# Altium footprint library Connector.PcbLib: 240 footprints (part 6 of 15)
Each footprint in its own frame and in the unit in brackets; x right, y up, seen from the top. Pads: shape width x height; smd on the part's side, far side on the other; paste and mask are expansions set on the pad; w line width, h text height; cw(c..) or ccw(c..) is an arc to the next point about the centre after c.
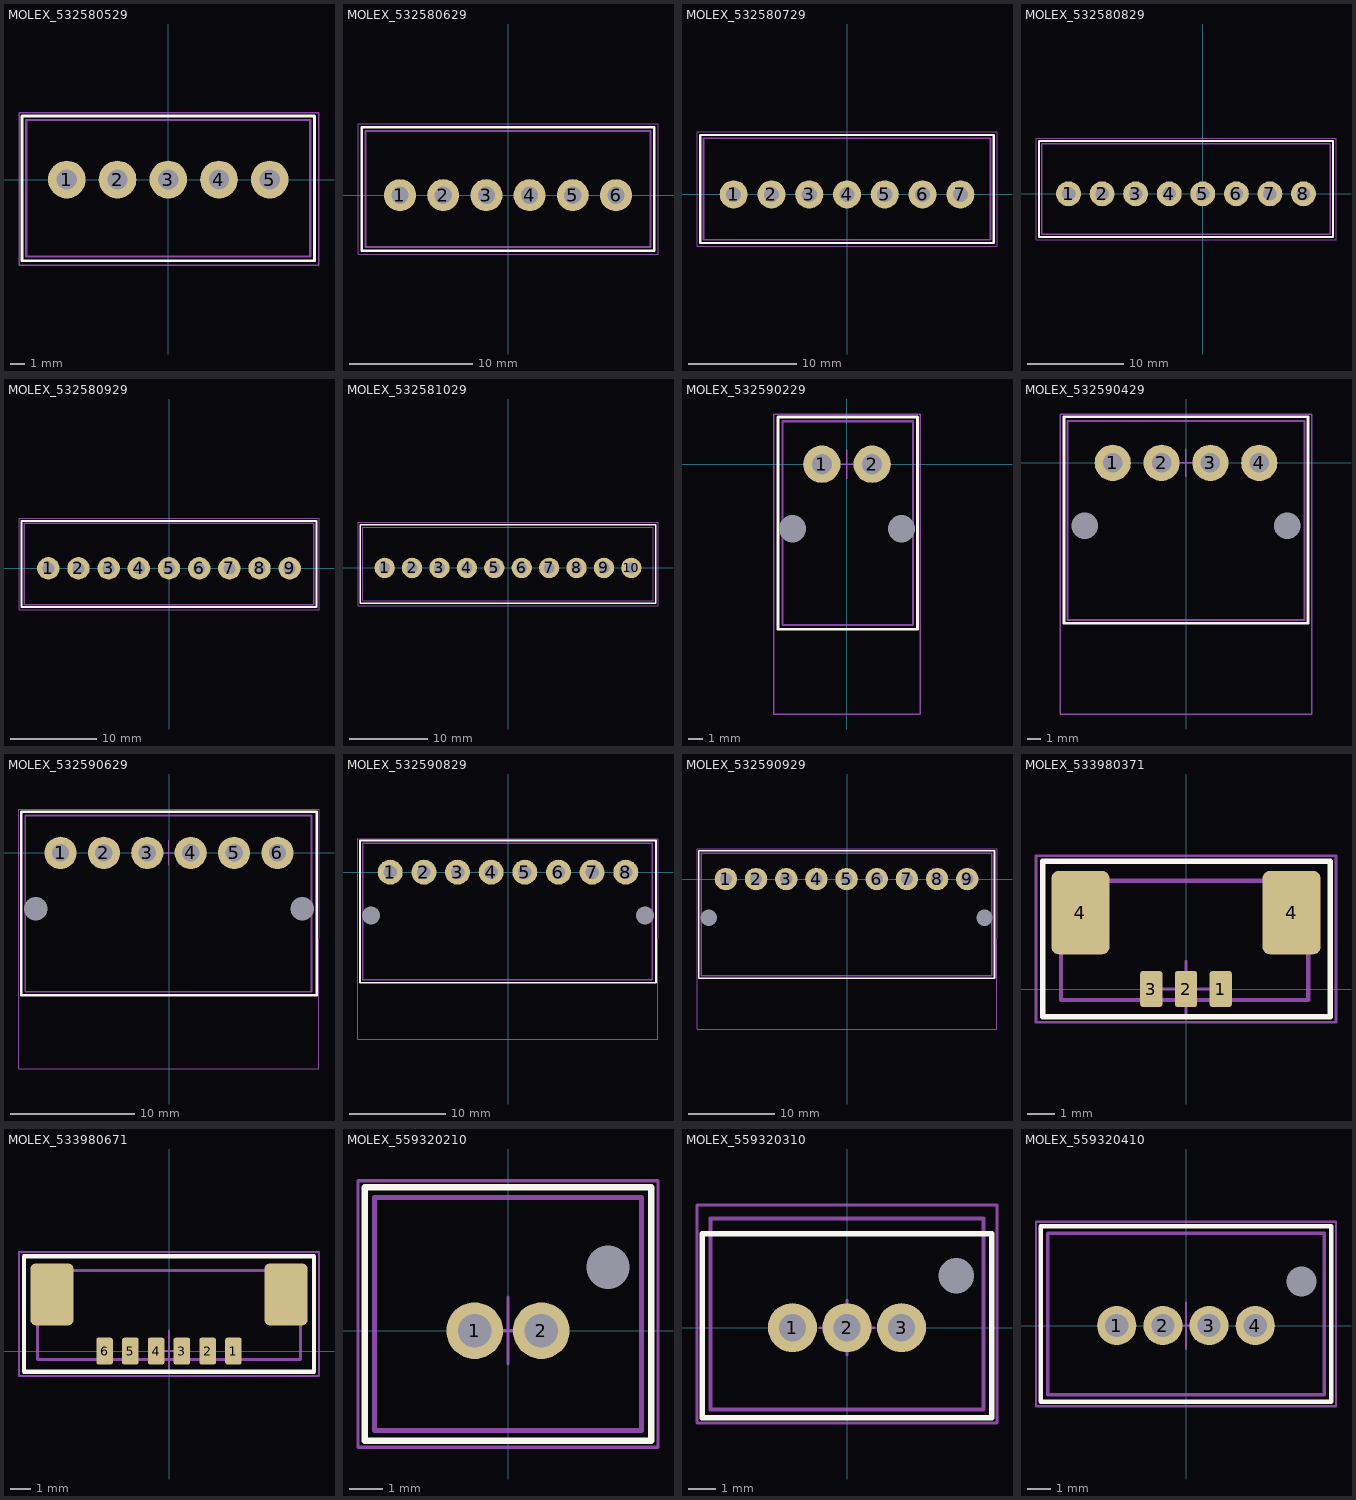
[diagram p5: the footprints below, top view; thin cyan lines are the x and y axes]

## MOLEX_532580529 [mm]
pads (5):
  round 2.6 hole 1.4: 1(-7,0) 2(-3.5,0) 3(0,0) 4(3.5,0) 5(7,0)
Top Overlay:
  lines w0.2: -10.1,-5.6 -10.1,4.4 10.1,4.4 10.1,-5.6 -10.1,-5.6
Mechanical 11:
  lines w0.15: -9.8,-5.3 -9.8,4.1 9.8,4.1 9.8,-5.3 -9.8,-5.3
Mechanical 15:
  lines w0.1: -0.95,0 1.05,0 ; 0.05,-1 0.05,1 ; -10.3,-5.9 10.4,-5.9 10.4,4.6 -10.3,4.6 -10.3,-5.9
3D body "Сборка 2.STEP": height 16.71, standoff -3.36, extent -9.8,-5.3 9.8,4.1

## MOLEX_532580629 [mm]
pads (6):
  round 2.6 hole 1.4: 1(-8.75,0) 2(-5.25,0) 3(-1.75,0) 4(1.75,0) 5(5.25,0) 6(8.75,0)
Top Overlay:
  lines w0.2: -11.85,-4.5 11.85,-4.5 11.85,5.5 -11.85,5.5 -11.85,-4.5
Mechanical 11:
  lines w0.15: 11.55,5.2 -11.55,5.2 -11.55,-4.2 11.55,-4.2 11.55,5.2
Mechanical 15:
  lines w0.1: 4.25,0 6.25,0 ; 5.25,-1 5.25,1 ; 12.15,-4.8 -12.15,-4.8 -12.15,5.8 12.15,5.8 12.15,-4.8
3D body "Connector 510670600 & 532580629.STEP": height 16.55, standoff -3.45, extent -11.55,-4.2 11.55,5.2

## MOLEX_532580729 [mm]
pads (7):
  round 2.6 hole 1.4: 1(-10.5,0) 2(-7,0) 3(-3.5,0) 4(0,0) 5(3.5,0) 6(7,0) 7(10.5,0)
Top Overlay:
  lines w0.2: -13.6,-4.5 13.6,-4.5 13.6,5.5 -13.6,5.5 -13.6,-4.5
Mechanical 11:
  lines w0.15: -13.3,-4.2 13.3,-4.2 13.3,5.2 -13.3,5.2 -13.3,-4.2
Mechanical 15:
  lines w0.1: 2.5,0 4.5,0 ; 3.5,-1 3.5,1 ; -13.9,-4.8 13.9,-4.8 13.9,5.8 -13.9,5.8 -13.9,-4.8
3D body "Singal connector (510670700 & 532580729).SLDASM.STEP": height 16.93, standoff -3.07, extent -13.305,-4.275 13.295,5.175

## MOLEX_532580829 [mm]
pads (8):
  round 2.6 hole 1.4: 1(-14,0) 2(-10.5,0) 3(-7,0) 4(-3.5,0) 5(0,0) 6(3.5,0) 7(7,0) 8(10.5,0)
Top Overlay:
  lines w0.2: -17.1,-4.5 13.6,-4.5 13.6,5.5 -17.1,5.5 -17.1,-4.5
Mechanical 11:
  lines w0.15: -16.8,-4.2 13.3,-4.2 13.3,5.2 -16.8,5.2 -16.8,-4.2
Mechanical 15:
  lines w0.1: -1,0 1,0 ; 0,-1 0,1 ; -17.4,-4.8 13.9,-4.8 13.9,5.8 -17.4,5.8 -17.4,-4.8
3D body "Connector 510670800 & 532580829.STEP": height 16.65, standoff -3.35, extent -16.85,-4.2 13.25,5.25

## MOLEX_532580929 [mm]
pads (9):
  round 2.6 hole 1.4: 1(-14,0) 2(-10.5,0) 3(-7,0) 4(-3.5,0) 5(0,0) 6(3.5,0) 7(7,0) 8(10.5,0) 9(14,0)
Top Overlay:
  lines w0.2: -17.1,-4.5 -17.1,5.5 17.1,5.5 17.1,-4.5 -17.1,-4.5
Mechanical 11:
  lines w0.15: -16.8,-4.2 -16.8,5.2 16.8,5.2 16.8,-4.2 -16.8,-4.2
Mechanical 15:
  lines w0.1: -1,0 1,0 ; 0,-1 0,1 ; -17.4,-4.8 -17.4,5.8 17.4,5.8 17.4,-4.8 -17.4,-4.8
3D body "Signal connector 510670900 & 5325580929.STEP": height 16.65, standoff -3.35, extent -16.8,-4.2 16.8,5.25

## MOLEX_532581029 [mm]
pads (10):
  round 2.6 hole 1.4: 1(-15.8,0) 2(-12.3,0) 3(-8.8,0) 4(-5.3,0) 5(-1.8,0) 6(1.7,0) 7(5.2,0) 8(8.7,0) 9(12.2,0) 10(15.7,0)
Top Overlay:
  lines w0.2: -18.9,-4.5 -18.9,5.5 18.8,5.5 18.8,-4.5 -18.9,-4.5
Mechanical 11:
  lines w0.15: -18.6,-4.2 -18.6,5.2 18.5,5.2 18.5,-4.2 -18.6,-4.2
Mechanical 15:
  lines w0.1: -2.8,0 -0.8,0 ; -1.8,-1 -1.8,1 ; -19.2,-4.8 -19.2,5.8 19.1,5.8 19.1,-4.8 -19.2,-4.8
3D body "Signal connector 510671000 & 532581029.SLDASM.STEP": height 16.65, standoff -3.35, extent -18.65,-4.2 18.45,5.25

## MOLEX_532590229 [mm]
pads (4):
  round 2.6 hole 1.4: 1(-1.75,0) 2(1.75,0)
  round 0 hole 1.9: ""(-3.8,-4.5) ""(3.8,-4.5)
Top Overlay:
  lines w0.2: -4.8,-11.5 -4.8,3.3 4.9,3.3 4.9,-11.5 -4.8,-11.5
Mechanical 11:
  lines w0.15: -4.5,-11.2 -4.5,3 4.6,3 4.6,-11.2 -4.5,-11.2
Mechanical 15:
  lines w0.1: -1,0 1,0 ; 0,-1 0,1 ; -5.1,-17.4 -5.1,3.5 5.1,3.5 5.1,-17.4 -5.1,-17.4
3D body "Connector (4pin) 510670200 & 532590229.STEP": height 9.95, standoff -3.45, extent -4.525,-17.25 4.575,2.95

## MOLEX_532590429 [mm]
pads (6):
  round 2.6 hole 1.4: 1(-5.25,0) 2(-1.75,0) 3(1.75,0) 4(5.25,0)
  round 0 hole 1.9: ""(-7.25,-4.5) ""(7.25,-4.5)
Top Overlay:
  lines w0.2: -8.75,-11.5 8.75,-11.5 8.75,3.3 -8.75,3.3 -8.75,-11.5
Mechanical 11:
  lines w0.15: -8.5,-11.25 8.5,-11.25 8.5,3 -8.5,3 -8.5,-11.25
Mechanical 15:
  lines w0.1: -1,0 1,0 ; 0,-1 0,1 ; -9,-18 9,-18 9,3.5 -9,3.5 -9,-18
3D body "Разъем Сборка.STEP": height 9.9, standoff -3.5, extent -8.05,-17.25 8.05,2.95

## MOLEX_532590629 [mm]
pads (8):
  round 2.6 hole 1.4: 1(-8.75,0) 2(-5.25,0) 3(-1.75,0) 4(1.75,0) 5(5.25,0) 6(8.75,0)
  round 0 hole 1.9: ""(-10.75,-4.5) ""(10.75,-4.5)
Top Overlay:
  lines w0.2: -11.9,-11.5 -11.9,3.3 11.9,3.3 11.9,-11.5 -11.9,-11.5
Mechanical 11:
  lines w0.15: -11.6,-11.2 -11.6,3 11.5,3 11.5,-11.2 -11.6,-11.2
Mechanical 15:
  lines w0.1: -1,0 1,0 ; 0,-1 0,1 ; -12.1,-17.4 -12.1,3.5 12.1,3.5 12.1,-17.4 -12.1,-17.4
3D body "Connector (6pin) 510670600 & 532590629.STEP": height 9.8, standoff -3.45, extent -11.6,-17.225 11.5,2.975

## MOLEX_532590829 [mm]
pads (10):
  round 2.6 hole 1.4: 1(-12.25,0) 2(-8.75,0) 3(-5.25,0) 4(-1.75,0) 5(1.75,0) 6(5.25,0) 7(8.75,0) 8(12.25,0)
  round 0 hole 1.9: ""(-14.25,-4.5) ""(14.25,-4.5)
Top Overlay:
  lines w0.2: -15.4,-11.5 15.4,-11.5 15.4,3.3 -15.4,3.3 -15.4,-11.5
Mechanical 11:
  lines w0.15: -15.1,-11.2 15,-11.2 15,3 -15.1,3 -15.1,-11.2
Mechanical 15:
  lines w0.1: 0.8,0 2.8,0 ; 1.8,-1 1.8,1 ; -15.6,-17.4 15.6,-17.4 15.6,3.5 -15.6,3.5 -15.6,-17.4
3D body "Connector (8pin) 510670800 & 532590829.STEP": height 9.6, standoff -3.65, extent -15.075,-17.2 15.025,3

## MOLEX_532590929 [mm]
pads (11):
  round 2.6 hole 1.4: 1(-14.05,0) 2(-10.55,0) 3(-7.05,0) 4(-3.55,0) 5(-0.05,0) 6(3.45,0) 7(6.95,0) 8(10.45,0) 9(13.95,0)
  round 0 hole 1.9: ""(-16.05,-4.5) ""(15.95,-4.5)
Top Overlay:
  lines w0.2: -17.2,-11.5 17.1,-11.5 17.1,3.3 -17.2,3.3 -17.2,-11.5
Mechanical 11:
  lines w0.15: -16.9,-11.2 16.8,-11.2 16.8,3 -16.9,3 -16.9,-11.2
Mechanical 15:
  lines w0.1: -1,0 1,0 ; 0,-1 0,1 ; -17.4,-17.4 17.4,-17.4 17.4,3.5 -17.4,3.5 -17.4,-17.4
3D body "Connector (9pin) 532590929 & 510670900.STEP": height 9.8, standoff -3.45, extent -16.825,-17.25 16.775,2.95

## MOLEX_533980371 [mm]
pads (5):
  rrect25% 0.8x1.3 smd: 1(1.25,0) 2(0,0) 3(-1.25,0)
  rrect25% 2.1x3 smd: 4(-3.8,2.75) 4(3.8,2.75)
Top Overlay:
  lines w0.2: -5.15,-1 -5.15,4.6 5.2,4.6 5.2,-1 -5.15,-1
Mechanical 7:
  lines w0.15: -4.5,-0.4 -4.5,3.9 4.4,3.9 4.4,-0.4 -4.5,-0.4
Mechanical 9:
  text ".Designator" at -6.5,10.2 h3
Mechanical 10:
  text ".Comment" at -4.6,8.4 h2
Mechanical 15:
  lines w0.1: -1,0 1,0 ; 0,-1 0,1 ; -5.4,-1.2 -5.4,4.8 5.4,4.8 5.4,-1.2 -5.4,-1.2
3D body "533980371.stp": height 4.7, standoff -0.04, extent -4.45,-0.35 4.45,3.85

## MOLEX_533980671 [mm]
pads (8):
  rrect25% 0.8x1.3 smd: 1(3.125,0) 2(1.875,0) 3(0.625,0) 4(-0.625,0) 5(-1.875,0) 6(-3.125,0)
  rrect25% 2.1x3 smd: ""(-5.675,2.75) ""(5.675,2.75)
Top Overlay:
  lines w0.2: -7.025,-1 -7.025,4.6 7.025,4.6 7.025,-1 -7.025,-1
Mechanical 7:
  lines w0.15: -6.375,-0.4 -6.375,3.9 6.375,3.9 6.375,-0.4 -6.375,-0.4
Mechanical 9:
  text ".Designator" at -5.4,6.8 h3
Mechanical 10:
  text ".Comment" at -3.5,5 h2
Mechanical 15:
  lines w0.1: -1,0 1,0 ; 0,-1 0,1 ; -7.275,-1.2 -7.275,4.8 7.275,4.8 7.275,-1.2 -7.275,-1.2
3D body "533980671.stp": height 4.7, standoff 0.01, extent -6.325,-0.35 6.325,3.85

## MOLEX_559320210 [mm]
pads (3):
  round 1.7 hole 1: 1(-1,0) 2(1,0)
  round 0 hole 1.3: ""(3,1.9)
Top Overlay:
  lines w0.2: -4.3,-3.3 4.3,-3.3 4.3,4.3 -4.3,4.3 -4.3,-3.3
Mechanical 9:
  text ".Designator" at -5.2,5.5 h3.5
Mechanical 10:
  text ".Comment" at -3.1,-5 h2
Mechanical 11:
  lines w0.15: -4,-3 4,-3 4,4 -4,4 -4,-3
Mechanical 15:
  lines w0.1: -1,0 1,0 ; 0,-1 0,1 ; -4.5,-3.5 4.5,-3.5 4.5,4.5 -4.5,4.5 -4.5,-3.5
3D body "1 pair.STEP": height 13.15, standoff -3.19, extent -4,-3.025 4,4.025

## MOLEX_559320310 [mm]
pads (4):
  round 1.8 hole 1: 1(-2,0) 2(0,0) 3(2,0)
  round 0 hole 1.3: ""(4,1.9)
Top Overlay:
  lines w0.2: -5.3,-3.3 -5.3,3.45 5.3,3.45 5.3,-3.3 -5.3,-3.3
Mechanical 9:
  text ".Designator" at -5.2,5.5 h3.5
Mechanical 10:
  text ".Comment" at -3.1,-5 h2
Mechanical 11:
  lines w0.15: -5,-3 -5,4 5,4 5,-3 -5,-3
Mechanical 15:
  lines w0.1: -5.5,-3.5 -5.5,4.5 5.5,4.5 5.5,-3.5 -5.5,-3.5 ; -1,0 1,0 -1,0 ; 0,-1 0,1 0,-1
3D body "2 pair.STEP": height 13.2, standoff -3.2, extent -5,-3 5,4.05

## MOLEX_559320410 [mm]
pads (5):
  round 1.7 hole 1: 1(-3,0) 2(-1,0) 3(1,0) 4(3,0)
  round 0 hole 1.3: ""(5,1.9)
Top Overlay:
  lines w0.2: -6.3,-3.3 6.3,-3.3 6.3,4.3 -6.3,4.3 -6.3,-3.3
Mechanical 9:
  text ".Designator" at -5.2,5.5 h3.5
Mechanical 10:
  text ".Comment" at -3.1,-5 h2
Mechanical 11:
  lines w0.15: -6,-3 6,-3 6,4 -6,4 -6,-3
Mechanical 15:
  lines w0.1: -1,0 1,0 ; 0,-1 0,1 ; -6.5,-3.5 6.5,-3.5 6.5,4.5 -6.5,4.5 -6.5,-3.5
3D body "3 pair.STEP": height 13.2, standoff -3.2, extent -6,-3 6,4.05